# Altium schematic symbol library SCH - LEVEL TRANSLATOR - TI TXU0304 14-TSSOP.SchLib: 1 symbol
Pins are listed as number, name and electrical type; pins without a type are passive.

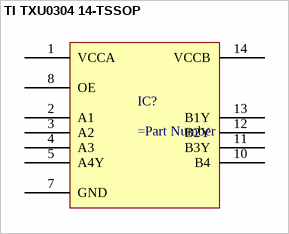
[diagram p0: symbol TI TXU0304 14-TSSOP]

## TI TXU0304 14-TSSOP
designator IC?
pins: 1 VCCA, 2 A1, 3 A2, 4 A3, 5 A4Y, 7 GND, 8 OE, 10 B4, 11 B3Y, 12 B2Y, 13 B1Y, 14 VCCB